# Altium integrated library MTB50P03HDLT4G.IntLib: 1 symbol
Pins are listed as number, name and electrical type; pins without a type are passive.

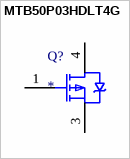
[diagram p0: symbol MTB50P03HDLT4G]

## MTB50P03HDLT4G
designator Q?
P-Channel 30 V 50A (Tc) 2.5W (Ta), 125W (Tc) Surface Mount DÂ²PAK; MF: ON Semiconductor; MP: MTB50P03HDLT4G; Check_prices: https://www.snapeda.com/parts/MTB50P03HDLT4G/Onsemi/view-part/?ref=eda; Availability: In Stock; Price: None; Package: D2PAK ON Semiconductor; Value: *; SnapEDA_Link: https://www.snapeda.com/parts/MTB50P03HDLT4G/Onsemi/view-part/?ref=snap; Purchase-URL: https://pricing.snapeda.com/search/part/MTB50P03HDLT4G/?ref=eda
footprint ONSC-D2PAK-3-418B-04_V
pins: 1 G, 3 S, 4 D